# Altium schematic symbol library kmilo17pet-TI_BattMgmt.SchLib: 950 symbols (part 24 of 60)
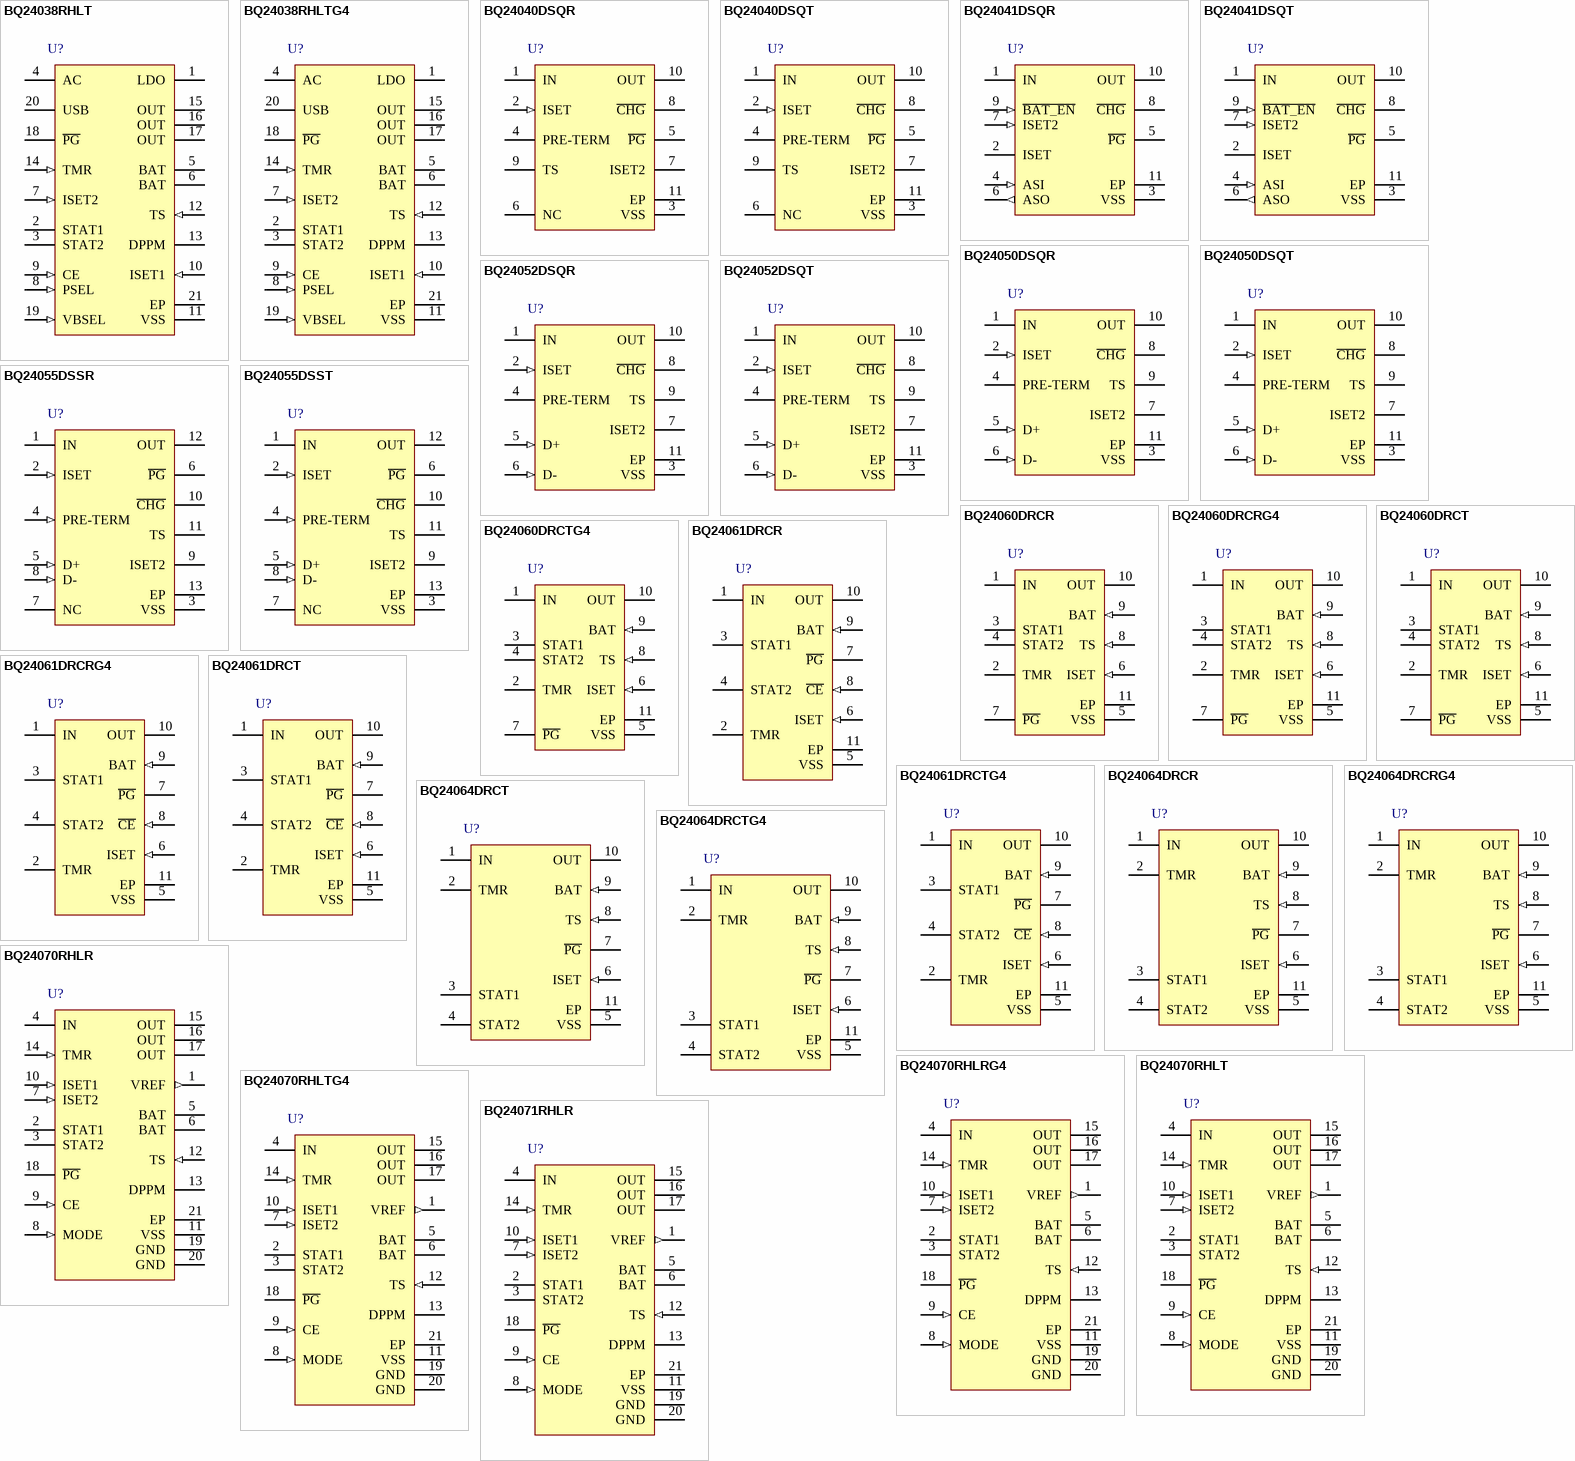
[diagram p57: symbols BQ24038RHLT to BQ24071RHLR]

## BQ24064DRCRG4
designator U?
Linear 1-Cell Li-Ion Charger with Thermal Regulation, 10.5 V OVP, Temp Sense, 4.3 V, -40 to 85 degC, 10-pin SON (DRC), Green (RoHS & no Sb/Br); PartNumber: BQ24064DRCRG4; Manufacturer: Texas Instruments; Lead Acid: N; Li-Ion: Y; SubFamily: Battery Charge Management; Vin(Min)(V): 4.3; DatasheetVersion: SLUS689A; PackageVersion: revL, Sep-2011; PackageReference: DRC10-2400X1650TP; PackageDescription: 10-Pin Plastic Small Outline No-Lead, 3 x 3 x 1 mm Body, 0.5 mm Pitch, Exposed Pad; Supplier 1: Digi-Key; Supplier Part Number 1: BQ24064DRCRG4-ND; Supplier Part Number 3: 595-BQ24064DRCRG4; Eco-Plan: Green (RoHS & no Sb/Br); Li-Polymer: Y; NiCd: N; NiMH: N; Over Voltage Protection: N; Mounting Technology: Surface Mount; ComponentLink1Description: Datasheet; ComponentLink1URL: http://www.ti.com/general/docs/lit/getliterature.tsp?genericPartNumber=BQ24064&fileType=pdf
footprint DRC10-2400X1650TP (SON, 10-Leads, Body 3x3mm, Pitch 0.5mm, Thermal Pad 2.4x1.65mm, TI Recommended)
pins: 1 IN (power) "Charge Input Voltage and internal supply. Connect a 1- uF (minimum) capacitor from IN to VSS. CIN>= COUT", 2 TMR "Safety Timer Program Input, timer disabled if floating. Connect a resistor to VSS pin to program safety timer timeout value", 3 STAT1 (hiz) "Charge Status Output 1 (open-collector, seeTable 3)", 4 STAT2 (hiz) "Charge Status Output 2 (open-collector, see Table 3)", 5 VSS (power) "Ground", 6 ISET (in) "Charge current set point, resistor connected from ISET to VSS sets charge current value. Connect a 0.47-uF capaciator from BAT to ISET.", 7 ~{PG} (hiz) "Power Good status output (open-collector), active low", 8 TS (in) "Temperature Sense Input, connect to battery pack thermistor. Connect an external resistive divider to program temperature thresholds.", 9 BAT (in) "Battery Voltage Sense Input. Connect to the battery positive terminal. Connect a 200-ohm resistor from BAT to OUT.", 10 OUT (power) "Charge current output. Connect to the battery positive terminal. Connect a 1- uF (minimum) capacitor from OUT to VSS.", 11 EP (power) "There is an internal electrical connection between the exposed thermal pad and Vss pin of the IC. The exposed thermal pad must be connected to the same potential as the VSS pin on the printed circuit board. Do not use the (See Datasheet)"

## BQ24064DRCT
designator U?
Linear 1-Cell Li-Ion Charger with Thermal Regulation, 10.5 V OVP, Temp Sense, 4.3 V, -40 to 85 degC, 10-pin SON (DRC), Green (RoHS & no Sb/Br); PartNumber: BQ24064DRCT; Manufacturer: Texas Instruments; Lead Acid: N; Li-Ion: Y; SubFamily: Battery Charge Management; Vin(Min)(V): 4.3; DatasheetVersion: SLUS689A; PackageVersion: revL, Sep-2011; PackageReference: DRC10-2400X1650TP; PackageDescription: 10-Pin Plastic Small Outline No-Lead, 3 x 3 x 1 mm Body, 0.5 mm Pitch, Exposed Pad; Supplier 1: Digi-Key; Supplier Part Number 1: BQ24064DRCT-ND; Supplier Part Number 3: 595-BQ24064DRCT; Eco-Plan: Green (RoHS & no Sb/Br); Li-Polymer: Y; NiCd: N; NiMH: N; Over Voltage Protection: N; Mounting Technology: Surface Mount; ComponentLink1Description: Datasheet; ComponentLink1URL: http://www.ti.com/general/docs/lit/getliterature.tsp?genericPartNumber=BQ24064&fileType=pdf
footprint DRC10-2400X1650TP (SON, 10-Leads, Body 3x3mm, Pitch 0.5mm, Thermal Pad 2.4x1.65mm, TI Recommended)
pins: 1 IN (power) "Charge Input Voltage and internal supply. Connect a 1- uF (minimum) capacitor from IN to VSS. CIN>= COUT", 2 TMR "Safety Timer Program Input, timer disabled if floating. Connect a resistor to VSS pin to program safety timer timeout value", 3 STAT1 (hiz) "Charge Status Output 1 (open-collector, seeTable 3)", 4 STAT2 (hiz) "Charge Status Output 2 (open-collector, see Table 3)", 5 VSS (power) "Ground", 6 ISET (in) "Charge current set point, resistor connected from ISET to VSS sets charge current value. Connect a 0.47-uF capaciator from BAT to ISET.", 7 ~{PG} (hiz) "Power Good status output (open-collector), active low", 8 TS (in) "Temperature Sense Input, connect to battery pack thermistor. Connect an external resistive divider to program temperature thresholds.", 9 BAT (in) "Battery Voltage Sense Input. Connect to the battery positive terminal. Connect a 200-ohm resistor from BAT to OUT.", 10 OUT (power) "Charge current output. Connect to the battery positive terminal. Connect a 1- uF (minimum) capacitor from OUT to VSS.", 11 EP (power) "There is an internal electrical connection between the exposed thermal pad and Vss pin of the IC. The exposed thermal pad must be connected to the same potential as the VSS pin on the printed circuit board. Do not use the (See Datasheet)"

## BQ24064DRCTG4
designator U?
Linear 1-Cell Li-Ion Charger with Thermal Regulation, 10.5 V OVP, Temp Sense, 4.3 V, -40 to 85 degC, 10-pin SON (DRC), Green (RoHS & no Sb/Br); PartNumber: BQ24064DRCTG4; Manufacturer: Texas Instruments; Lead Acid: N; Li-Ion: Y; SubFamily: Battery Charge Management; Vin(Min)(V): 4.3; DatasheetVersion: SLUS689A; PackageVersion: revL, Sep-2011; PackageReference: DRC10-2400X1650TP; PackageDescription: 10-Pin Plastic Small Outline No-Lead, 3 x 3 x 1 mm Body, 0.5 mm Pitch, Exposed Pad; Supplier 1: Digi-Key; Supplier Part Number 1: BQ24064DRCTG4-ND; Supplier Part Number 3: 595-BQ24064DRCTG4; Eco-Plan: Green (RoHS & no Sb/Br); Li-Polymer: Y; NiCd: N; NiMH: N; Over Voltage Protection: N; Mounting Technology: Surface Mount; ComponentLink1Description: Datasheet; ComponentLink1URL: http://www.ti.com/general/docs/lit/getliterature.tsp?genericPartNumber=BQ24064&fileType=pdf
footprint DRC10-2400X1650TP (SON, 10-Leads, Body 3x3mm, Pitch 0.5mm, Thermal Pad 2.4x1.65mm, TI Recommended)
pins: 1 IN (power) "Charge Input Voltage and internal supply. Connect a 1- uF (minimum) capacitor from IN to VSS. CIN>= COUT", 2 TMR "Safety Timer Program Input, timer disabled if floating. Connect a resistor to VSS pin to program safety timer timeout value", 3 STAT1 (hiz) "Charge Status Output 1 (open-collector, seeTable 3)", 4 STAT2 (hiz) "Charge Status Output 2 (open-collector, see Table 3)", 5 VSS (power) "Ground", 6 ISET (in) "Charge current set point, resistor connected from ISET to VSS sets charge current value. Connect a 0.47-uF capaciator from BAT to ISET.", 7 ~{PG} (hiz) "Power Good status output (open-collector), active low", 8 TS (in) "Temperature Sense Input, connect to battery pack thermistor. Connect an external resistive divider to program temperature thresholds.", 9 BAT (in) "Battery Voltage Sense Input. Connect to the battery positive terminal. Connect a 200-ohm resistor from BAT to OUT.", 10 OUT (power) "Charge current output. Connect to the battery positive terminal. Connect a 1- uF (minimum) capacitor from OUT to VSS.", 11 EP (power) "There is an internal electrical connection between the exposed thermal pad and Vss pin of the IC. The exposed thermal pad must be connected to the same potential as the VSS pin on the printed circuit board. Do not use the (See Datasheet)"

## BQ24070RHLR
designator U?
Li-Ion Charger with Dynamic Power-Path Management, Output regulated to 4.4 V, 4.3 V, -40 to 85 degC, 20-pin QFN (RHL), Green (RoHS & no Sb/Br); PartNumber: BQ24070RHLR; Manufacturer: Texas Instruments; Lead Acid: N; Li-Ion: Y; SubFamily: Battery Charge Management; Vin(Min)(V): 4.3; DatasheetVersion: SLUS694F; PackageVersion: revJ, Dec-2011; PackageReference: RHL20-3050X2050TP; PackageDescription: 20-Leads Plastic Quad Flatpack No-Lead, 4.5 x 3.5 x 0.9 mm Body, 0.5 mm Pitch, Exposed Pad; Supplier 1: Digi-Key; Supplier Part Number 1: 296-19652-2-ND; Supplier Part Number 3: 296-19652-6-ND; Eco-Plan: Green (RoHS & no Sb/Br); Li-Polymer: Y; NiCd: N; NiMH: N; Over Voltage Protection: N; Mounting Technology: Surface Mount; ComponentLink1Description: Datasheet; ComponentLink1URL: http://www.ti.com/general/docs/lit/getliterature.tsp?genericPartNumber=BQ24070&fileType=pdf
footprint RHL20-3050X2050TP (QFN, 20-Leads, Body 4.5x3.5mm, Pitch 0.5mm, Thermal Pad 3.05x2.05mm, TI Recommended)
pins: 1 VREF (out) "Internal reference signal", 2 STAT1 (oc) "Charge status output 1 (open-drain)", 3 STAT2 (oc) "Charge status output 2 (open-drain)", 4 IN (power) "Charge input voltage", 5 BAT (power) "Battery input and output.", 6 BAT (power) "Battery input and output.", 7 ISET2 (in) "Charge current set point for USB port. (High = 500 mA, Low = 100 mA) See half-charge current mode using ISET2.", 8 MODE (in) "Power source selection input (Low for USB mode current limit)", 9 CE (in) "Chip enable input (active high)", 10 ISET1 (in) "Charge current set point and precharge and termination set point", 11 VSS (power) "Ground input (the thermal pad on the underside of the package) There is an internal electrical connection between the exposed thermal pad and VSS pin of the device. The exposed thermal pad must be connected to the same (See Datasheet)", 12 TS (in) "Temperature sense input", 13 DPPM "Dynamic power-path management set point (account for scale factor)", 14 TMR (in) "Timer program input programmed by resistor. Disable fast-charge safety timer and termination by tying TMR to VREF.", 15 OUT (power) "Output terminal to the system", 16 OUT (power) "Output terminal to the system", 17 OUT (power) "Output terminal to the system", 18 ~{PG} (oc) "Power-good status output (open-drain)", 19 GND (power) "Ground input", 20 GND (power) "Ground input", 21 EP (power) "Exposed Pad"

## BQ24070RHLRG4
designator U?
Li-Ion Charger with Dynamic Power-Path Management, Output regulated to 4.4 V, 4.3 V, -40 to 85 degC, 20-pin QFN (RHL), Green (RoHS & no Sb/Br); PartNumber: BQ24070RHLRG4; Manufacturer: Texas Instruments; Lead Acid: N; Li-Ion: Y; SubFamily: Battery Charge Management; Vin(Min)(V): 4.3; DatasheetVersion: SLUS694F; PackageVersion: revJ, Dec-2011; PackageReference: RHL20-3050X2050TP; PackageDescription: 20-Leads Plastic Quad Flatpack No-Lead, 4.5 x 3.5 x 0.9 mm Body, 0.5 mm Pitch, Exposed Pad; Supplier 1: Digi-Key; Supplier Part Number 1: BQ24070RHLRG4-ND; Supplier Part Number 3: 595-BQ24070RHLRG4; Eco-Plan: Green (RoHS & no Sb/Br); Li-Polymer: Y; NiCd: N; NiMH: N; Over Voltage Protection: N; Mounting Technology: Surface Mount; ComponentLink1Description: Datasheet; ComponentLink1URL: http://www.ti.com/general/docs/lit/getliterature.tsp?genericPartNumber=BQ24070&fileType=pdf
footprint RHL20-3050X2050TP (QFN, 20-Leads, Body 4.5x3.5mm, Pitch 0.5mm, Thermal Pad 3.05x2.05mm, TI Recommended)
pins: 1 VREF (out) "Internal reference signal", 2 STAT1 (oc) "Charge status output 1 (open-drain)", 3 STAT2 (oc) "Charge status output 2 (open-drain)", 4 IN (power) "Charge input voltage", 5 BAT (power) "Battery input and output.", 6 BAT (power) "Battery input and output.", 7 ISET2 (in) "Charge current set point for USB port. (High = 500 mA, Low = 100 mA) See half-charge current mode using ISET2.", 8 MODE (in) "Power source selection input (Low for USB mode current limit)", 9 CE (in) "Chip enable input (active high)", 10 ISET1 (in) "Charge current set point and precharge and termination set point", 11 VSS (power) "Ground input (the thermal pad on the underside of the package) There is an internal electrical connection between the exposed thermal pad and VSS pin of the device. The exposed thermal pad must be connected to the same (See Datasheet)", 12 TS (in) "Temperature sense input", 13 DPPM "Dynamic power-path management set point (account for scale factor)", 14 TMR (in) "Timer program input programmed by resistor. Disable fast-charge safety timer and termination by tying TMR to VREF.", 15 OUT (power) "Output terminal to the system", 16 OUT (power) "Output terminal to the system", 17 OUT (power) "Output terminal to the system", 18 ~{PG} (oc) "Power-good status output (open-drain)", 19 GND (power) "Ground input", 20 GND (power) "Ground input", 21 EP (power) "Exposed Pad"

## BQ24070RHLT
designator U?
Li-Ion Charger with Dynamic Power-Path Management, Output regulated to 4.4 V, 4.3 V, -40 to 85 degC, 20-pin QFN (RHL), Green (RoHS & no Sb/Br); PartNumber: BQ24070RHLT; Manufacturer: Texas Instruments; Lead Acid: N; Li-Ion: Y; SubFamily: Battery Charge Management; Vin(Min)(V): 4.3; DatasheetVersion: SLUS694F; PackageVersion: revJ, Dec-2011; PackageReference: RHL20-3050X2050TP; PackageDescription: 20-Leads Plastic Quad Flatpack No-Lead, 4.5 x 3.5 x 0.9 mm Body, 0.5 mm Pitch, Exposed Pad; Supplier 1: Digi-Key; Supplier Part Number 1: 296-28743-2-ND; Supplier Part Number 3: 296-28743-6-ND; Eco-Plan: Green (RoHS & no Sb/Br); Li-Polymer: Y; NiCd: N; NiMH: N; Over Voltage Protection: N; Mounting Technology: Surface Mount; ComponentLink1Description: Datasheet; ComponentLink1URL: http://www.ti.com/general/docs/lit/getliterature.tsp?genericPartNumber=BQ24070&fileType=pdf
footprint RHL20-3050X2050TP (QFN, 20-Leads, Body 4.5x3.5mm, Pitch 0.5mm, Thermal Pad 3.05x2.05mm, TI Recommended)
pins: 1 VREF (out) "Internal reference signal", 2 STAT1 (oc) "Charge status output 1 (open-drain)", 3 STAT2 (oc) "Charge status output 2 (open-drain)", 4 IN (power) "Charge input voltage", 5 BAT (power) "Battery input and output.", 6 BAT (power) "Battery input and output.", 7 ISET2 (in) "Charge current set point for USB port. (High = 500 mA, Low = 100 mA) See half-charge current mode using ISET2.", 8 MODE (in) "Power source selection input (Low for USB mode current limit)", 9 CE (in) "Chip enable input (active high)", 10 ISET1 (in) "Charge current set point and precharge and termination set point", 11 VSS (power) "Ground input (the thermal pad on the underside of the package) There is an internal electrical connection between the exposed thermal pad and VSS pin of the device. The exposed thermal pad must be connected to the same (See Datasheet)", 12 TS (in) "Temperature sense input", 13 DPPM "Dynamic power-path management set point (account for scale factor)", 14 TMR (in) "Timer program input programmed by resistor. Disable fast-charge safety timer and termination by tying TMR to VREF.", 15 OUT (power) "Output terminal to the system", 16 OUT (power) "Output terminal to the system", 17 OUT (power) "Output terminal to the system", 18 ~{PG} (oc) "Power-good status output (open-drain)", 19 GND (power) "Ground input", 20 GND (power) "Ground input", 21 EP (power) "Exposed Pad"

## BQ24070RHLTG4
designator U?
Li-Ion Charger with Dynamic Power-Path Management, Output regulated to 4.4 V, 4.3 V, -40 to 85 degC, 20-pin QFN (RHL), Green (RoHS & no Sb/Br); PartNumber: BQ24070RHLTG4; Manufacturer: Texas Instruments; Lead Acid: N; Li-Ion: Y; SubFamily: Battery Charge Management; Vin(Min)(V): 4.3; DatasheetVersion: SLUS694F; PackageVersion: revJ, Dec-2011; PackageReference: RHL20-3050X2050TP; PackageDescription: 20-Leads Plastic Quad Flatpack No-Lead, 4.5 x 3.5 x 0.9 mm Body, 0.5 mm Pitch, Exposed Pad; Supplier 1: Digi-Key; Supplier Part Number 1: BQ24070RHLTG4-ND; Supplier Part Number 3: 1494884; Eco-Plan: Green (RoHS & no Sb/Br); Li-Polymer: Y; NiCd: N; NiMH: N; Over Voltage Protection: N; Mounting Technology: Surface Mount; ComponentLink1Description: Datasheet; ComponentLink1URL: http://www.ti.com/general/docs/lit/getliterature.tsp?genericPartNumber=BQ24070&fileType=pdf
footprint RHL20-3050X2050TP (QFN, 20-Leads, Body 4.5x3.5mm, Pitch 0.5mm, Thermal Pad 3.05x2.05mm, TI Recommended)
pins: 1 VREF (out) "Internal reference signal", 2 STAT1 (oc) "Charge status output 1 (open-drain)", 3 STAT2 (oc) "Charge status output 2 (open-drain)", 4 IN (power) "Charge input voltage", 5 BAT (power) "Battery input and output.", 6 BAT (power) "Battery input and output.", 7 ISET2 (in) "Charge current set point for USB port. (High = 500 mA, Low = 100 mA) See half-charge current mode using ISET2.", 8 MODE (in) "Power source selection input (Low for USB mode current limit)", 9 CE (in) "Chip enable input (active high)", 10 ISET1 (in) "Charge current set point and precharge and termination set point", 11 VSS (power) "Ground input (the thermal pad on the underside of the package) There is an internal electrical connection between the exposed thermal pad and VSS pin of the device. The exposed thermal pad must be connected to the same (See Datasheet)", 12 TS (in) "Temperature sense input", 13 DPPM "Dynamic power-path management set point (account for scale factor)", 14 TMR (in) "Timer program input programmed by resistor. Disable fast-charge safety timer and termination by tying TMR to VREF.", 15 OUT (power) "Output terminal to the system", 16 OUT (power) "Output terminal to the system", 17 OUT (power) "Output terminal to the system", 18 ~{PG} (oc) "Power-good status output (open-drain)", 19 GND (power) "Ground input", 20 GND (power) "Ground input", 21 EP (power) "Exposed Pad"

## BQ24071RHLR
designator U?
Li-Ion Charger with Dynamic Power-Path Management, Output regulated to 6 V, 4.3 V, -40 to 85 degC, 20-pin QFN (RHL), Green (RoHS & no Sb/Br); PartNumber: BQ24071RHLR; Manufacturer: Texas Instruments; Lead Acid: N; Li-Ion: Y; SubFamily: Battery Charge Management; Vin(Min)(V): 4.3; DatasheetVersion: SLUS694F; PackageVersion: revJ, Dec-2011; PackageReference: RHL20-3050X2050TP; PackageDescription: 20-Leads Plastic Quad Flatpack No-Lead, 4.5 x 3.5 x 0.9 mm Body, 0.5 mm Pitch, Exposed Pad; Supplier 1: Digi-Key; Supplier Part Number 1: BQ24071RHLR-ND; Supplier Part Number 3: 595-BQ24071RHLR; Eco-Plan: Green (RoHS & no Sb/Br); Li-Polymer: Y; NiCd: N; NiMH: N; Over Voltage Protection: N; Mounting Technology: Surface Mount; ComponentLink1Description: Datasheet; ComponentLink1URL: http://www.ti.com/general/docs/lit/getliterature.tsp?genericPartNumber=BQ24071&fileType=pdf
footprint RHL20-3050X2050TP (QFN, 20-Leads, Body 4.5x3.5mm, Pitch 0.5mm, Thermal Pad 3.05x2.05mm, TI Recommended)
pins: 1 VREF (out) "Internal reference signal", 2 STAT1 (oc) "Charge status output 1 (open-drain)", 3 STAT2 (oc) "Charge status output 2 (open-drain)", 4 IN (power) "Charge input voltage", 5 BAT (power) "Battery input and output.", 6 BAT (power) "Battery input and output.", 7 ISET2 (in) "Charge current set point for USB port. (High = 500 mA, Low = 100 mA) See half-charge current mode using ISET2.", 8 MODE (in) "Power source selection input (Low for USB mode current limit)", 9 CE (in) "Chip enable input (active high)", 10 ISET1 (in) "Charge current set point and precharge and termination set point", 11 VSS (power) "Ground input (the thermal pad on the underside of the package) There is an internal electrical connection between the exposed thermal pad and VSS pin of the device. The exposed thermal pad must be connected to the same (See Datasheet)", 12 TS (in) "Temperature sense input", 13 DPPM "Dynamic power-path management set point (account for scale factor)", 14 TMR (in) "Timer program input programmed by resistor. Disable fast-charge safety timer and termination by tying TMR to VREF.", 15 OUT (power) "Output terminal to the system", 16 OUT (power) "Output terminal to the system", 17 OUT (power) "Output terminal to the system", 18 ~{PG} (oc) "Power-good status output (open-drain)", 19 GND (power) "Ground input", 20 GND (power) "Ground input", 21 EP (power) "Exposed Pad"

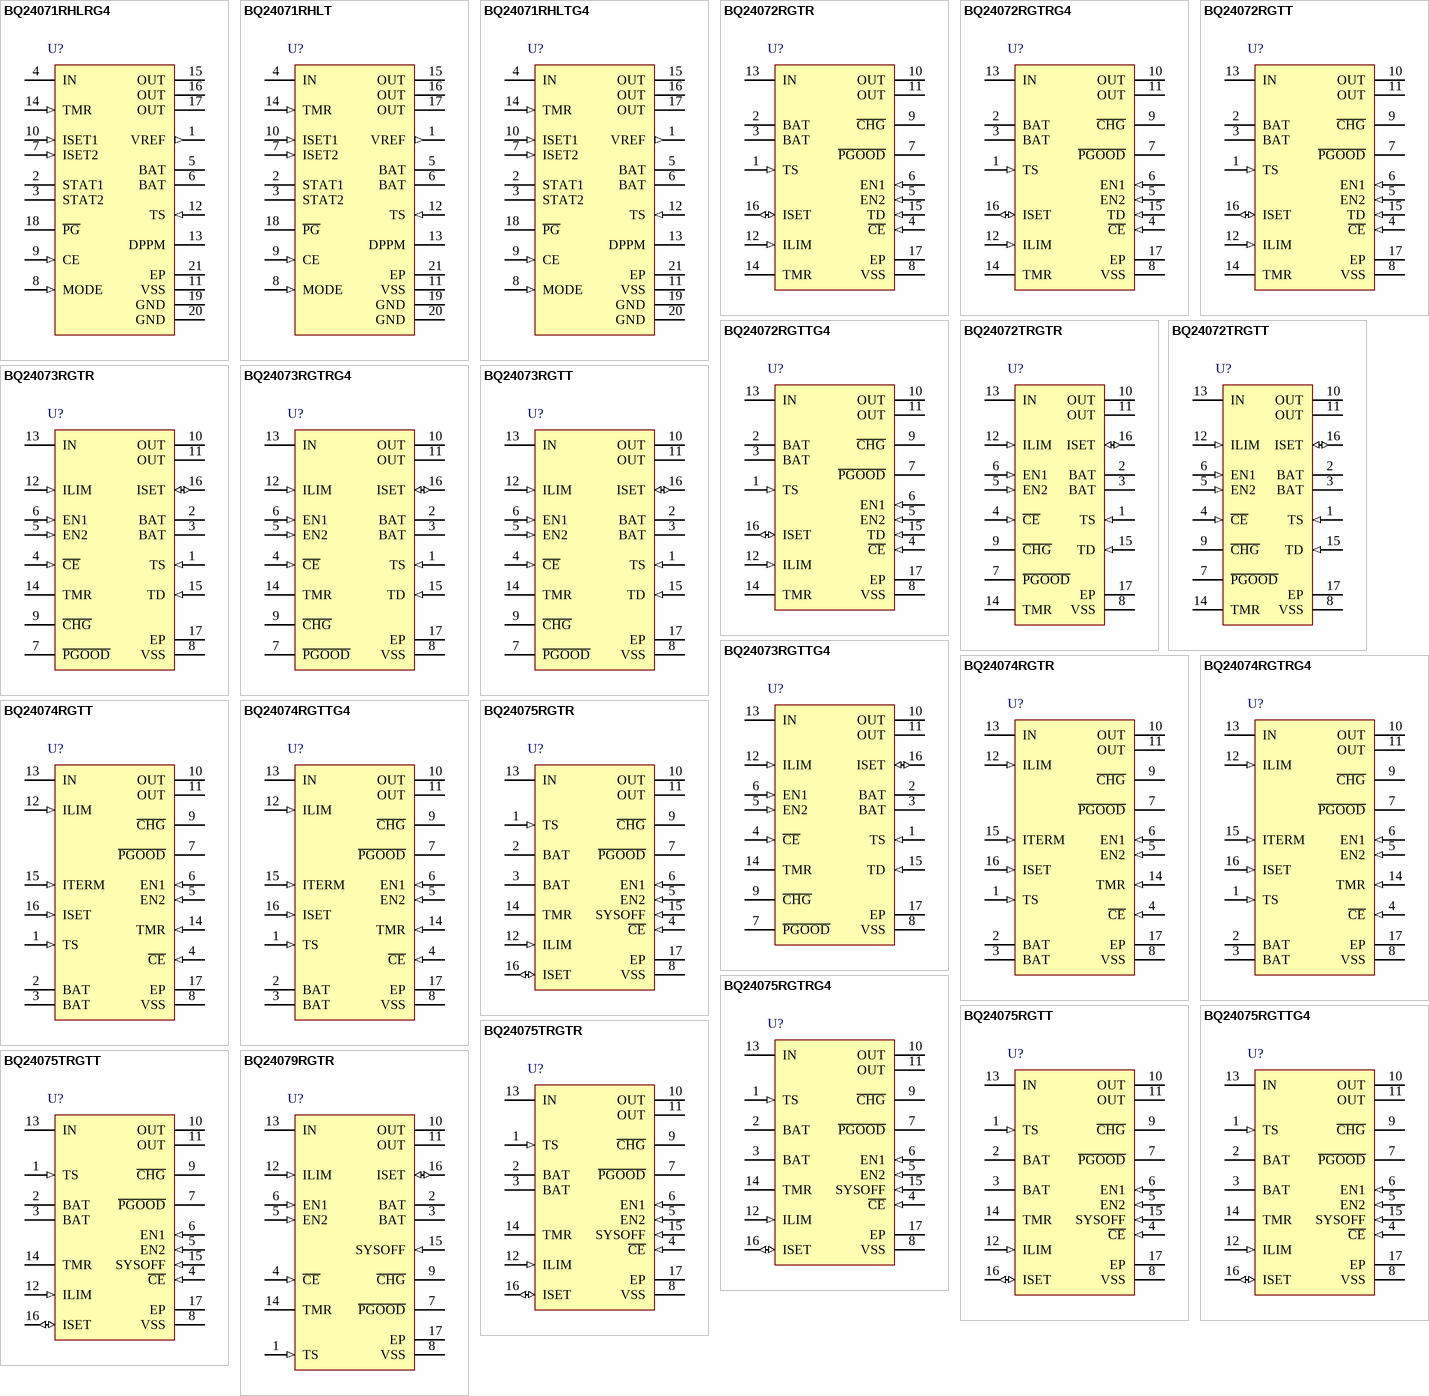
[diagram p15: symbols BQ24071RHLRG4 to BQ24079RGTR]

## BQ24071RHLRG4
designator U?
Li-Ion Charger with Dynamic Power-Path Management, Output regulated to 6 V, 4.3 V, -40 to 85 degC, 20-pin QFN (RHL), Green (RoHS & no Sb/Br); PartNumber: BQ24071RHLRG4; Manufacturer: Texas Instruments; Lead Acid: N; Li-Ion: Y; SubFamily: Battery Charge Management; Vin(Min)(V): 4.3; DatasheetVersion: SLUS694F; PackageVersion: revJ, Dec-2011; PackageReference: RHL20-3050X2050TP; PackageDescription: 20-Leads Plastic Quad Flatpack No-Lead, 4.5 x 3.5 x 0.9 mm Body, 0.5 mm Pitch, Exposed Pad; Supplier 1: Digi-Key; Supplier Part Number 1: BQ24071RHLRG4-ND; Supplier Part Number 3: 595-BQ24071RHLRG4; Eco-Plan: Green (RoHS & no Sb/Br); Li-Polymer: Y; NiCd: N; NiMH: N; Over Voltage Protection: N; Mounting Technology: Surface Mount; ComponentLink1Description: Datasheet; ComponentLink1URL: http://www.ti.com/general/docs/lit/getliterature.tsp?genericPartNumber=BQ24071&fileType=pdf
footprint RHL20-3050X2050TP (QFN, 20-Leads, Body 4.5x3.5mm, Pitch 0.5mm, Thermal Pad 3.05x2.05mm, TI Recommended)
pins: 1 VREF (out) "Internal reference signal", 2 STAT1 (oc) "Charge status output 1 (open-drain)", 3 STAT2 (oc) "Charge status output 2 (open-drain)", 4 IN (power) "Charge input voltage", 5 BAT (power) "Battery input and output.", 6 BAT (power) "Battery input and output.", 7 ISET2 (in) "Charge current set point for USB port. (High = 500 mA, Low = 100 mA) See half-charge current mode using ISET2.", 8 MODE (in) "Power source selection input (Low for USB mode current limit)", 9 CE (in) "Chip enable input (active high)", 10 ISET1 (in) "Charge current set point and precharge and termination set point", 11 VSS (power) "Ground input (the thermal pad on the underside of the package) There is an internal electrical connection between the exposed thermal pad and VSS pin of the device. The exposed thermal pad must be connected to the same (See Datasheet)", 12 TS (in) "Temperature sense input", 13 DPPM "Dynamic power-path management set point (account for scale factor)", 14 TMR (in) "Timer program input programmed by resistor. Disable fast-charge safety timer and termination by tying TMR to VREF.", 15 OUT (power) "Output terminal to the system", 16 OUT (power) "Output terminal to the system", 17 OUT (power) "Output terminal to the system", 18 ~{PG} (oc) "Power-good status output (open-drain)", 19 GND (power) "Ground input", 20 GND (power) "Ground input", 21 EP (power) "Exposed Pad"

## BQ24071RHLT
designator U?
Li-Ion Charger with Dynamic Power-Path Management, Output regulated to 6 V, 4.3 V, -40 to 85 degC, 20-pin QFN (RHL), Green (RoHS & no Sb/Br); PartNumber: BQ24071RHLT; Manufacturer: Texas Instruments; Lead Acid: N; Li-Ion: Y; SubFamily: Battery Charge Management; Vin(Min)(V): 4.3; DatasheetVersion: SLUS694F; PackageVersion: revJ, Dec-2011; PackageReference: RHL20-3050X2050TP; PackageDescription: 20-Leads Plastic Quad Flatpack No-Lead, 4.5 x 3.5 x 0.9 mm Body, 0.5 mm Pitch, Exposed Pad; Supplier 1: Digi-Key; Supplier Part Number 1: 296-20743-2-ND; Supplier Part Number 3: 296-20743-6-ND; Eco-Plan: Green (RoHS & no Sb/Br); Li-Polymer: Y; NiCd: N; NiMH: N; Over Voltage Protection: N; Mounting Technology: Surface Mount; ComponentLink1Description: Datasheet; ComponentLink1URL: http://www.ti.com/general/docs/lit/getliterature.tsp?genericPartNumber=BQ24071&fileType=pdf
footprint RHL20-3050X2050TP (QFN, 20-Leads, Body 4.5x3.5mm, Pitch 0.5mm, Thermal Pad 3.05x2.05mm, TI Recommended)
pins: 1 VREF (out) "Internal reference signal", 2 STAT1 (oc) "Charge status output 1 (open-drain)", 3 STAT2 (oc) "Charge status output 2 (open-drain)", 4 IN (power) "Charge input voltage", 5 BAT (power) "Battery input and output.", 6 BAT (power) "Battery input and output.", 7 ISET2 (in) "Charge current set point for USB port. (High = 500 mA, Low = 100 mA) See half-charge current mode using ISET2.", 8 MODE (in) "Power source selection input (Low for USB mode current limit)", 9 CE (in) "Chip enable input (active high)", 10 ISET1 (in) "Charge current set point and precharge and termination set point", 11 VSS (power) "Ground input (the thermal pad on the underside of the package) There is an internal electrical connection between the exposed thermal pad and VSS pin of the device. The exposed thermal pad must be connected to the same (See Datasheet)", 12 TS (in) "Temperature sense input", 13 DPPM "Dynamic power-path management set point (account for scale factor)", 14 TMR (in) "Timer program input programmed by resistor. Disable fast-charge safety timer and termination by tying TMR to VREF.", 15 OUT (power) "Output terminal to the system", 16 OUT (power) "Output terminal to the system", 17 OUT (power) "Output terminal to the system", 18 ~{PG} (oc) "Power-good status output (open-drain)", 19 GND (power) "Ground input", 20 GND (power) "Ground input", 21 EP (power) "Exposed Pad"

## BQ24071RHLTG4
designator U?
Li-Ion Charger with Dynamic Power-Path Management, Output regulated to 6 V, 4.3 V, -40 to 85 degC, 20-pin QFN (RHL), Green (RoHS & no Sb/Br); PartNumber: BQ24071RHLTG4; Manufacturer: Texas Instruments; Lead Acid: N; Li-Ion: Y; SubFamily: Battery Charge Management; Vin(Min)(V): 4.3; DatasheetVersion: SLUS694F; PackageVersion: revJ, Dec-2011; PackageReference: RHL20-3050X2050TP; PackageDescription: 20-Leads Plastic Quad Flatpack No-Lead, 4.5 x 3.5 x 0.9 mm Body, 0.5 mm Pitch, Exposed Pad; Supplier 1: Digi-Key; Supplier Part Number 1: BQ24071RHLTG4-ND; Supplier Part Number 3: 595-BQ24071RHLTG4; Eco-Plan: Green (RoHS & no Sb/Br); Li-Polymer: Y; NiCd: N; NiMH: N; Over Voltage Protection: N; Mounting Technology: Surface Mount; ComponentLink1Description: Datasheet; ComponentLink1URL: http://www.ti.com/general/docs/lit/getliterature.tsp?genericPartNumber=BQ24071&fileType=pdf
footprint RHL20-3050X2050TP (QFN, 20-Leads, Body 4.5x3.5mm, Pitch 0.5mm, Thermal Pad 3.05x2.05mm, TI Recommended)
pins: 1 VREF (out) "Internal reference signal", 2 STAT1 (oc) "Charge status output 1 (open-drain)", 3 STAT2 (oc) "Charge status output 2 (open-drain)", 4 IN (power) "Charge input voltage", 5 BAT (power) "Battery input and output.", 6 BAT (power) "Battery input and output.", 7 ISET2 (in) "Charge current set point for USB port. (High = 500 mA, Low = 100 mA) See half-charge current mode using ISET2.", 8 MODE (in) "Power source selection input (Low for USB mode current limit)", 9 CE (in) "Chip enable input (active high)", 10 ISET1 (in) "Charge current set point and precharge and termination set point", 11 VSS (power) "Ground input (the thermal pad on the underside of the package) There is an internal electrical connection between the exposed thermal pad and VSS pin of the device. The exposed thermal pad must be connected to the same (See Datasheet)", 12 TS (in) "Temperature sense input", 13 DPPM "Dynamic power-path management set point (account for scale factor)", 14 TMR (in) "Timer program input programmed by resistor. Disable fast-charge safety timer and termination by tying TMR to VREF.", 15 OUT (power) "Output terminal to the system", 16 OUT (power) "Output terminal to the system", 17 OUT (power) "Output terminal to the system", 18 ~{PG} (oc) "Power-good status output (open-drain)", 19 GND (power) "Ground input", 20 GND (power) "Ground input", 21 EP (power) "Exposed Pad"

## BQ24072RGTR
designator U?
USB-Friendly Li-Ion Battery Charger and Power-Path Management IC, Vout 200 mV above Vbat, 4.3 V, -40 to 85 degC, 16-pin QFN (RGT), Green (RoHS & no Sb/Br); PartNumber: BQ24072RGTR; Manufacturer: Texas Instruments; Lead Acid: N; Li-Ion: Y; SubFamily: Battery Charge Management; Vin(Min)(V): 4.3; DatasheetVersion: SLUS810G; PackageVersion: revH, Oct-2011; PackageReference: RGT16-1700X1700TP; PackageDescription: 16-Pin Plastic Quad Flat No-Lead, 3 x 3 mm Body, 0.5 mm Pitch, 1.7 x 1.7 mm Exposed Pad; Supplier 1: Digi-Key; Supplier Part Number 1: BQ24072RGTR-ND; Supplier Part Number 3: 595-BQ24072RGTR; Eco-Plan: Green (RoHS & no Sb/Br); Li-Polymer: Y; NiCd: N; NiMH: N; Over Voltage Protection: N; Mounting Technology: Surface Mount; Code_JEDEC: MO-220; ComponentLink1Description: Datasheet; ComponentLink1URL: http://www.ti.com/general/docs/lit/getliterature.tsp?genericPartNumber=BQ24072&fileType=pdf
footprint RGT16-1700X1700TP (QFN, 16-Leads, Body 3x3mm, Pitch 0.5mm, Thermal Pad 1.7x1.7mm, TI Recommended)
pins: 1 TS (in) "External NTC Thermistor Input. Connect the TS input to the NTC thermistor in the battery pack. TS monitors a 10-k ohm NTC thermistor. For applications that do not utilize the TS function, connect a 10-k ohm fixed resistor (See Datasheet)", 2 BAT (power) "Charger Power Stage Output and Battery Voltage Sense Input. Connect BAT to the positive terminal of the battery. Bypass BAT to VSS with a 4.7-uF to 47-uF ceramic capacitor.", 3 BAT (power) "Charger Power Stage Output and Battery Voltage Sense Input. Connect BAT to the positive terminal of the battery. Bypass BAT to VSS with a 4.7-uF to 47-uF ceramic capacitor.", 4 ~{CE} (in) "Charge Enable Active-Low Input. Connect C\E\ to a high logic level to place the battery charger in standby mode. In standby mode, OUT is active and battery supplement mode is still available. Connect C\E\ to a low logic (See Datasheet)", 5 EN2 (in) "Input Current Limit Configuration Inputs. Use EN1 and EN2 control the maximum input current and enable USB compliance. See Table 2 for the description of the operation states. EN1 and EN2 are internally pulled down with ~285 (See Datasheet)", 6 EN1 (in) "Input Current Limit Configuration Inputs. Use EN1 and EN2 control the maximum input current and enable USB compliance. See Table 2 for the description of the operation states. EN1 and EN2 are internally pulled down with ~285 (See Datasheet)", 7 ~{PGOOD} (hiz) "Open-drain Power Good Status Indication Output. P\G\O\O\D\ pulls to VSS when a valid input source is detected. P\G\O\O\D\ is high-impedance when the input power is not within specified limits. Connect P\G\O\O\D\ to the (See Datasheet)", 8 VSS (power) "Ground. Connect to the thermal pad and to the ground rail of the circuit.", 9 ~{CHG} (hiz) "Open-Drain Charging Status Indication Output. C\H\G\ pulls to VSS when the battery is charging. C\H\G\ is high impedance when charging is complete and when charger is disabled.", 10 OUT (power) "System Supply Output. OUT provides a regulated output when the input is below the OVP threshold and above the regulation voltage. When the input is out of the operation range, OUT is connected to VBAT. Connect OUT to the (See Datasheet)", 11 OUT (power) "System Supply Output. OUT provides a regulated output when the input is below the OVP threshold and above the regulation voltage. When the input is out of the operation range, OUT is connected to VBAT. Connect OUT to the (See Datasheet)", 12 ILIM (in) "Adjustable Current Limit Programming Input. Connect a 3.1-k ohm to 7.8-k ohm resistor from ILIM to VSS to program the maximum input current (EN2=1, EN1=0). The input current includes the system load and the battery charge (See Datasheet)", 13 IN (power) "Input Power Connection. Connect IN to the connected to external DC supply (AC adapter or USB port). The input operating range is 4.35 V to 6.6 V. (bq24072)The input can accept voltages up to 26 V without damage but operation (See Datasheet)", 14 TMR "Timer Programming Input. TMR controls the precharge and fast-charge safety timers. Connect TMR to VSS to disable all safety timers. Connect a 18-k ohm to 72-k ohm resistor between TMR and VSS to program the timers a desired (See Datasheet)", 15 TD (in) "Termination Disable Input. Connect TD high to disable charger termination. Connect TD to VSS to enable charger termination. TD is checked during start-up only and cannot be changed during operation. See the TD section in (See Datasheet)", 16 ISET (io) "Fast-Charge Current Programming Input. Connect a 3-k ohm to 36-k ohm resistor from ISET to VSS to program the fast-charge current level. Charging is disabled if ISET is left unconnected. While charging, the voltage at ISET (See Datasheet)", 17 EP (power) "There is an internal electrical connection exists between the exposed thermal pad and the VSS pin of the device. The thermal pad must be connected to the same potential as the VSS pin on the printed-circuit board. Do not use (See Datasheet)"

## BQ24072RGTRG4
designator U?
USB-Friendly Li-Ion Battery Charger and Power-Path Management IC, Vout 200 mV above Vbat, 4.3 V, -40 to 85 degC, 16-pin QFN (RGT), Green (RoHS & no Sb/Br); PartNumber: BQ24072RGTRG4; Manufacturer: Texas Instruments; Lead Acid: N; Li-Ion: Y; SubFamily: Battery Charge Management; Vin(Min)(V): 4.3; DatasheetVersion: SLUS810G; PackageVersion: revH, Oct-2011; PackageReference: RGT16-1700X1700TP; PackageDescription: 16-Pin Plastic Quad Flat No-Lead, 3 x 3 mm Body, 0.5 mm Pitch, 1.7 x 1.7 mm Exposed Pad; Supplier 1: Digi-Key; Supplier Part Number 1: BQ24072RGTRG4-ND; Eco-Plan: Green (RoHS & no Sb/Br); Li-Polymer: Y; NiCd: N; NiMH: N; Over Voltage Protection: N; Mounting Technology: Surface Mount; Code_JEDEC: MO-220; ComponentLink1Description: Datasheet; ComponentLink1URL: http://www.ti.com/general/docs/lit/getliterature.tsp?genericPartNumber=BQ24072&fileType=pdf
footprint RGT16-1700X1700TP (QFN, 16-Leads, Body 3x3mm, Pitch 0.5mm, Thermal Pad 1.7x1.7mm, TI Recommended)
pins: 1 TS (in) "External NTC Thermistor Input. Connect the TS input to the NTC thermistor in the battery pack. TS monitors a 10-k ohm NTC thermistor. For applications that do not utilize the TS function, connect a 10-k ohm fixed resistor (See Datasheet)", 2 BAT (power) "Charger Power Stage Output and Battery Voltage Sense Input. Connect BAT to the positive terminal of the battery. Bypass BAT to VSS with a 4.7-uF to 47-uF ceramic capacitor.", 3 BAT (power) "Charger Power Stage Output and Battery Voltage Sense Input. Connect BAT to the positive terminal of the battery. Bypass BAT to VSS with a 4.7-uF to 47-uF ceramic capacitor.", 4 ~{CE} (in) "Charge Enable Active-Low Input. Connect C\E\ to a high logic level to place the battery charger in standby mode. In standby mode, OUT is active and battery supplement mode is still available. Connect C\E\ to a low logic (See Datasheet)", 5 EN2 (in) "Input Current Limit Configuration Inputs. Use EN1 and EN2 control the maximum input current and enable USB compliance. See Table 2 for the description of the operation states. EN1 and EN2 are internally pulled down with ~285 (See Datasheet)", 6 EN1 (in) "Input Current Limit Configuration Inputs. Use EN1 and EN2 control the maximum input current and enable USB compliance. See Table 2 for the description of the operation states. EN1 and EN2 are internally pulled down with ~285 (See Datasheet)", 7 ~{PGOOD} (hiz) "Open-drain Power Good Status Indication Output. P\G\O\O\D\ pulls to VSS when a valid input source is detected. P\G\O\O\D\ is high-impedance when the input power is not within specified limits. Connect P\G\O\O\D\ to the (See Datasheet)", 8 VSS (power) "Ground. Connect to the thermal pad and to the ground rail of the circuit.", 9 ~{CHG} (hiz) "Open-Drain Charging Status Indication Output. C\H\G\ pulls to VSS when the battery is charging. C\H\G\ is high impedance when charging is complete and when charger is disabled.", 10 OUT (power) "System Supply Output. OUT provides a regulated output when the input is below the OVP threshold and above the regulation voltage. When the input is out of the operation range, OUT is connected to VBAT. Connect OUT to the (See Datasheet)", 11 OUT (power) "System Supply Output. OUT provides a regulated output when the input is below the OVP threshold and above the regulation voltage. When the input is out of the operation range, OUT is connected to VBAT. Connect OUT to the (See Datasheet)", 12 ILIM (in) "Adjustable Current Limit Programming Input. Connect a 3.1-k ohm to 7.8-k ohm resistor from ILIM to VSS to program the maximum input current (EN2=1, EN1=0). The input current includes the system load and the battery charge (See Datasheet)", 13 IN (power) "Input Power Connection. Connect IN to the connected to external DC supply (AC adapter or USB port). The input operating range is 4.35 V to 6.6 V. (bq24072)The input can accept voltages up to 26 V without damage but operation (See Datasheet)", 14 TMR "Timer Programming Input. TMR controls the precharge and fast-charge safety timers. Connect TMR to VSS to disable all safety timers. Connect a 18-k ohm to 72-k ohm resistor between TMR and VSS to program the timers a desired (See Datasheet)", 15 TD (in) "Termination Disable Input. Connect TD high to disable charger termination. Connect TD to VSS to enable charger termination. TD is checked during start-up only and cannot be changed during operation. See the TD section in (See Datasheet)", 16 ISET (io) "Fast-Charge Current Programming Input. Connect a 3-k ohm to 36-k ohm resistor from ISET to VSS to program the fast-charge current level. Charging is disabled if ISET is left unconnected. While charging, the voltage at ISET (See Datasheet)", 17 EP (power) "There is an internal electrical connection exists between the exposed thermal pad and the VSS pin of the device. The thermal pad must be connected to the same potential as the VSS pin on the printed-circuit board. Do not use (See Datasheet)"

## BQ24072RGTT
designator U?
USB-Friendly Li-Ion Battery Charger and Power-Path Management IC, Vout 200 mV above Vbat, 4.3 V, -40 to 85 degC, 16-pin QFN (RGT), Green (RoHS & no Sb/Br); PartNumber: BQ24072RGTT; Manufacturer: Texas Instruments; Lead Acid: N; Li-Ion: Y; SubFamily: Battery Charge Management; Vin(Min)(V): 4.3; DatasheetVersion: SLUS810G; PackageVersion: revH, Oct-2011; PackageReference: RGT16-1700X1700TP; PackageDescription: 16-Pin Plastic Quad Flat No-Lead, 3 x 3 mm Body, 0.5 mm Pitch, 1.7 x 1.7 mm Exposed Pad; Supplier 1: Digi-Key; Supplier Part Number 1: 296-23813-2-ND; Supplier Part Number 3: 296-23813-6-ND; Eco-Plan: Green (RoHS & no Sb/Br); Li-Polymer: Y; NiCd: N; NiMH: N; Over Voltage Protection: N; Mounting Technology: Surface Mount; Code_JEDEC: MO-220; ComponentLink1Description: Datasheet; ComponentLink1URL: http://www.ti.com/general/docs/lit/getliterature.tsp?genericPartNumber=BQ24072&fileType=pdf
footprint RGT16-1700X1700TP (QFN, 16-Leads, Body 3x3mm, Pitch 0.5mm, Thermal Pad 1.7x1.7mm, TI Recommended)
pins: 1 TS (in) "External NTC Thermistor Input. Connect the TS input to the NTC thermistor in the battery pack. TS monitors a 10-k ohm NTC thermistor. For applications that do not utilize the TS function, connect a 10-k ohm fixed resistor (See Datasheet)", 2 BAT (power) "Charger Power Stage Output and Battery Voltage Sense Input. Connect BAT to the positive terminal of the battery. Bypass BAT to VSS with a 4.7-uF to 47-uF ceramic capacitor.", 3 BAT (power) "Charger Power Stage Output and Battery Voltage Sense Input. Connect BAT to the positive terminal of the battery. Bypass BAT to VSS with a 4.7-uF to 47-uF ceramic capacitor.", 4 ~{CE} (in) "Charge Enable Active-Low Input. Connect C\E\ to a high logic level to place the battery charger in standby mode. In standby mode, OUT is active and battery supplement mode is still available. Connect C\E\ to a low logic (See Datasheet)", 5 EN2 (in) "Input Current Limit Configuration Inputs. Use EN1 and EN2 control the maximum input current and enable USB compliance. See Table 2 for the description of the operation states. EN1 and EN2 are internally pulled down with ~285 (See Datasheet)", 6 EN1 (in) "Input Current Limit Configuration Inputs. Use EN1 and EN2 control the maximum input current and enable USB compliance. See Table 2 for the description of the operation states. EN1 and EN2 are internally pulled down with ~285 (See Datasheet)", 7 ~{PGOOD} (hiz) "Open-drain Power Good Status Indication Output. P\G\O\O\D\ pulls to VSS when a valid input source is detected. P\G\O\O\D\ is high-impedance when the input power is not within specified limits. Connect P\G\O\O\D\ to the (See Datasheet)", 8 VSS (power) "Ground. Connect to the thermal pad and to the ground rail of the circuit.", 9 ~{CHG} (hiz) "Open-Drain Charging Status Indication Output. C\H\G\ pulls to VSS when the battery is charging. C\H\G\ is high impedance when charging is complete and when charger is disabled.", 10 OUT (power) "System Supply Output. OUT provides a regulated output when the input is below the OVP threshold and above the regulation voltage. When the input is out of the operation range, OUT is connected to VBAT. Connect OUT to the (See Datasheet)", 11 OUT (power) "System Supply Output. OUT provides a regulated output when the input is below the OVP threshold and above the regulation voltage. When the input is out of the operation range, OUT is connected to VBAT. Connect OUT to the (See Datasheet)", 12 ILIM (in) "Adjustable Current Limit Programming Input. Connect a 3.1-k ohm to 7.8-k ohm resistor from ILIM to VSS to program the maximum input current (EN2=1, EN1=0). The input current includes the system load and the battery charge (See Datasheet)", 13 IN (power) "Input Power Connection. Connect IN to the connected to external DC supply (AC adapter or USB port). The input operating range is 4.35 V to 6.6 V. (bq24072)The input can accept voltages up to 26 V without damage but operation (See Datasheet)", 14 TMR "Timer Programming Input. TMR controls the precharge and fast-charge safety timers. Connect TMR to VSS to disable all safety timers. Connect a 18-k ohm to 72-k ohm resistor between TMR and VSS to program the timers a desired (See Datasheet)", 15 TD (in) "Termination Disable Input. Connect TD high to disable charger termination. Connect TD to VSS to enable charger termination. TD is checked during start-up only and cannot be changed during operation. See the TD section in (See Datasheet)", 16 ISET (io) "Fast-Charge Current Programming Input. Connect a 3-k ohm to 36-k ohm resistor from ISET to VSS to program the fast-charge current level. Charging is disabled if ISET is left unconnected. While charging, the voltage at ISET (See Datasheet)", 17 EP (power) "There is an internal electrical connection exists between the exposed thermal pad and the VSS pin of the device. The thermal pad must be connected to the same potential as the VSS pin on the printed-circuit board. Do not use (See Datasheet)"

## BQ24072RGTTG4
designator U?
USB-Friendly Li-Ion Battery Charger and Power-Path Management IC, Vout 200 mV above Vbat, 4.3 V, -40 to 85 degC, 16-pin QFN (RGT), Green (RoHS & no Sb/Br); PartNumber: BQ24072RGTTG4; Manufacturer: Texas Instruments; Lead Acid: N; Li-Ion: Y; SubFamily: Battery Charge Management; Vin(Min)(V): 4.3; DatasheetVersion: SLUS810G; PackageVersion: revH, Oct-2011; PackageReference: RGT16-1700X1700TP; PackageDescription: 16-Pin Plastic Quad Flat No-Lead, 3 x 3 mm Body, 0.5 mm Pitch, 1.7 x 1.7 mm Exposed Pad; Supplier 1: Digi-Key; Supplier Part Number 1: BQ24072RGTTG4-ND; Supplier Part Number 3: 595-BQ24072RGTTG4; Eco-Plan: Green (RoHS & no Sb/Br); Li-Polymer: Y; NiCd: N; NiMH: N; Over Voltage Protection: N; Mounting Technology: Surface Mount; Code_JEDEC: MO-220; ComponentLink1Description: Datasheet; ComponentLink1URL: http://www.ti.com/general/docs/lit/getliterature.tsp?genericPartNumber=BQ24072&fileType=pdf
footprint RGT16-1700X1700TP (QFN, 16-Leads, Body 3x3mm, Pitch 0.5mm, Thermal Pad 1.7x1.7mm, TI Recommended)
pins: 1 TS (in) "External NTC Thermistor Input. Connect the TS input to the NTC thermistor in the battery pack. TS monitors a 10-k ohm NTC thermistor. For applications that do not utilize the TS function, connect a 10-k ohm fixed resistor (See Datasheet)", 2 BAT (power) "Charger Power Stage Output and Battery Voltage Sense Input. Connect BAT to the positive terminal of the battery. Bypass BAT to VSS with a 4.7-uF to 47-uF ceramic capacitor.", 3 BAT (power) "Charger Power Stage Output and Battery Voltage Sense Input. Connect BAT to the positive terminal of the battery. Bypass BAT to VSS with a 4.7-uF to 47-uF ceramic capacitor.", 4 ~{CE} (in) "Charge Enable Active-Low Input. Connect C\E\ to a high logic level to place the battery charger in standby mode. In standby mode, OUT is active and battery supplement mode is still available. Connect C\E\ to a low logic (See Datasheet)", 5 EN2 (in) "Input Current Limit Configuration Inputs. Use EN1 and EN2 control the maximum input current and enable USB compliance. See Table 2 for the description of the operation states. EN1 and EN2 are internally pulled down with ~285 (See Datasheet)", 6 EN1 (in) "Input Current Limit Configuration Inputs. Use EN1 and EN2 control the maximum input current and enable USB compliance. See Table 2 for the description of the operation states. EN1 and EN2 are internally pulled down with ~285 (See Datasheet)", 7 ~{PGOOD} (hiz) "Open-drain Power Good Status Indication Output. P\G\O\O\D\ pulls to VSS when a valid input source is detected. P\G\O\O\D\ is high-impedance when the input power is not within specified limits. Connect P\G\O\O\D\ to the (See Datasheet)", 8 VSS (power) "Ground. Connect to the thermal pad and to the ground rail of the circuit.", 9 ~{CHG} (hiz) "Open-Drain Charging Status Indication Output. C\H\G\ pulls to VSS when the battery is charging. C\H\G\ is high impedance when charging is complete and when charger is disabled.", 10 OUT (power) "System Supply Output. OUT provides a regulated output when the input is below the OVP threshold and above the regulation voltage. When the input is out of the operation range, OUT is connected to VBAT. Connect OUT to the (See Datasheet)", 11 OUT (power) "System Supply Output. OUT provides a regulated output when the input is below the OVP threshold and above the regulation voltage. When the input is out of the operation range, OUT is connected to VBAT. Connect OUT to the (See Datasheet)", 12 ILIM (in) "Adjustable Current Limit Programming Input. Connect a 3.1-k ohm to 7.8-k ohm resistor from ILIM to VSS to program the maximum input current (EN2=1, EN1=0). The input current includes the system load and the battery charge (See Datasheet)", 13 IN (power) "Input Power Connection. Connect IN to the connected to external DC supply (AC adapter or USB port). The input operating range is 4.35 V to 6.6 V. (bq24072)The input can accept voltages up to 26 V without damage but operation (See Datasheet)", 14 TMR "Timer Programming Input. TMR controls the precharge and fast-charge safety timers. Connect TMR to VSS to disable all safety timers. Connect a 18-k ohm to 72-k ohm resistor between TMR and VSS to program the timers a desired (See Datasheet)", 15 TD (in) "Termination Disable Input. Connect TD high to disable charger termination. Connect TD to VSS to enable charger termination. TD is checked during start-up only and cannot be changed during operation. See the TD section in (See Datasheet)", 16 ISET (io) "Fast-Charge Current Programming Input. Connect a 3-k ohm to 36-k ohm resistor from ISET to VSS to program the fast-charge current level. Charging is disabled if ISET is left unconnected. While charging, the voltage at ISET (See Datasheet)", 17 EP (power) "There is an internal electrical connection exists between the exposed thermal pad and the VSS pin of the device. The thermal pad must be connected to the same potential as the VSS pin on the printed-circuit board. Do not use (See Datasheet)"